# EAGLE library part TMP102-LP (library IC)
Low Power Digital Temperature Sensor With SMBus ? /Two-Wire Serial Interface in SOT563 http://search.digikey.com/scripts/DkSearch/dksus.dll?Detail&name=296-22055-2-ND
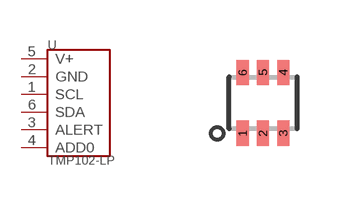
[diagram p144: symbol with the pads of SOT563; footprint SOT563]

Designator prefix U

## TMP102-LP  [SOT563]
1  SCL
2  GND  pwr
3  ALERT
4  ADD0
5  V+  pwr
6  SDA

## Footprint SOT563 (pad centres in mm)
smd 0.305 x 0.635: 1 -0.508,-0.762; 2 0,-0.762; 3 0.508,-0.762; 4 0.508,0.762; 5 0,0.762; 6 -0.508,0.762